# Altium footprint library Inductor_SMD.PcbLib: 259 footprints (part 12 of 17)
Each footprint in its own frame and in the unit in brackets; x right, y up, seen from the top. Pads: shape width x height; smd on the part's side, far side on the other; paste and mask are expansions set on the pad; w line width, h text height; cw(c..) or ccw(c..) is an arc to the next point about the centre after c.
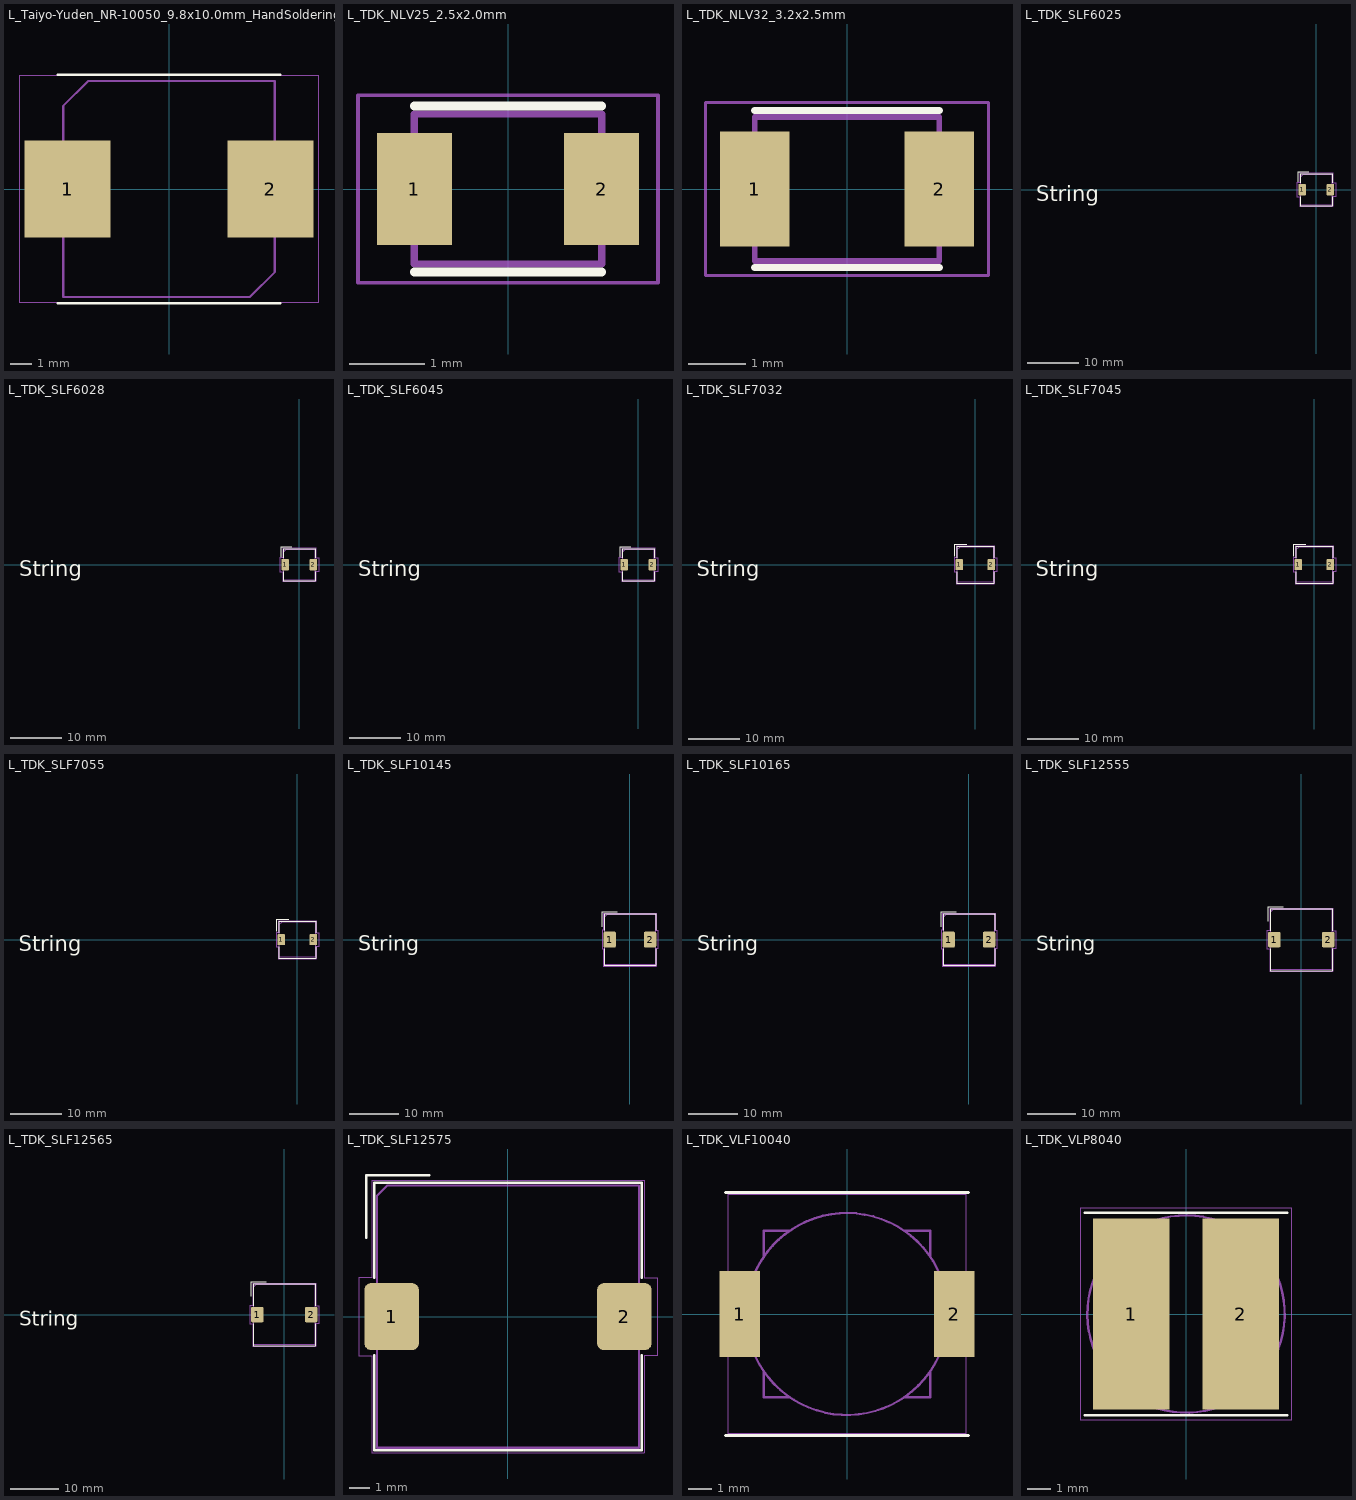
[diagram p11: the footprints below, top view; thin cyan lines are the x and y axes]

## L_Taiyo-Yuden_NR-10050_9.8x10.0mm_HandSoldering [mm]
pads (2):
  rect 4x4.5 smd: 1(-4.7,0) 2(4.7,0)
F.SilkS:
  lines w0.12: -5.15,-5.3 5.15,-5.3 ; -5.15,5.3 5.15,5.3
F.CrtYd:
  lines w0.05: -6.95,-5.25 6.95,-5.25 6.95,5.25 -6.95,5.25 -6.95,-5.25
F.Fab:
  lines w0.1: -4.9,-5 3.75,-5 4.9,-3.85 4.9,5 -3.75,5 -4.9,3.85 -4.9,-5
  text "'.Designator'" at -4.047,-0.84 h1

## L_TDK_NLV25_2.5x2.0mm [mm]
pads (2):
  rect 1x1.5 smd: 1(-1.25,0) 2(1.25,0)
F.SilkS:
  lines w0.12: -1.25,-1.11 1.25,-1.11 ; -1.25,1.11 1.25,1.11
F.CrtYd:
  lines w0.05: -2,-1.25 -2,1.25 2,1.25 2,-1.25 -2,-1.25
F.Fab:
  lines w0.1: -1.25,-1 1.25,-1 1.25,1 -1.25,1 -1.25,-1
  text "'.Designator'" at -2.028,-0.425 h0.5

## L_TDK_NLV32_3.2x2.5mm [mm]
pads (2):
  rect 1.2x2 smd: 1(-1.6,0) 2(1.6,0)
F.SilkS:
  lines w0.12: -1.6,-1.36 1.6,-1.36 ; -1.6,1.36 1.6,1.36
F.CrtYd:
  lines w0.05: -2.45,-1.5 2.45,-1.5 2.45,1.5 -2.45,1.5 -2.45,-1.5
F.Fab:
  lines w0.1: -1.6,-1.25 1.6,-1.25 1.6,1.25 -1.6,1.25 -1.6,-1.25
  text "'.Designator'" at -2.028,-0.425 h0.5

## L_TDK_SLF6025 [mm]
pads (2):
  rrect25% 1.5x2.2 smd: 1(-2.75,0) 2(2.75,0)
F.SilkS:
  lines w0.12: -3.5,1.5 -3.5,3.5 -1.5,3.5 ; -3.12,-1.35 -3.12,-3.12 3.12,-3.12 3.12,-1.35 ; -3.12,1.35 -3.12,3.12 3.12,3.12 3.12,1.35
  text "String" at -54.563,-2.271 h3
F.CrtYd:
  lines w0.05: -3.76,-1.36 -3.25,-1.36 -3.25,-3.25 3.25,-3.25 3.25,-1.36 3.76,-1.36 3.76,1.36 3.25,1.36 3.25,3.25 -3.25,3.25 -3.25,1.36 -3.76,1.36 -3.76,-1.36
F.Fab:
  lines w0.1: -3,-3 3,-3 3,3 -2.5,3 -3,2.5 -3,-3
  text "'.Designator'" at -4.047,-0.84 h1

## L_TDK_SLF6028 [mm]
pads (2):
  rrect25% 1.5x2.2 smd: 1(-2.75,0) 2(2.75,0)
F.SilkS:
  lines w0.12: -3.5,1.5 -3.5,3.5 -1.5,3.5 ; -3.12,-1.35 -3.12,-3.12 3.12,-3.12 3.12,-1.35 ; -3.12,1.35 -3.12,3.12 3.12,3.12 3.12,1.35
  text "String" at -54.563,-2.271 h3
F.CrtYd:
  lines w0.05: -3.76,-1.36 -3.25,-1.36 -3.25,-3.25 3.25,-3.25 3.25,-1.36 3.76,-1.36 3.76,1.36 3.25,1.36 3.25,3.25 -3.25,3.25 -3.25,1.36 -3.76,1.36 -3.76,-1.36
F.Fab:
  lines w0.1: -3,-3 3,-3 3,3 -2.5,3 -3,2.5 -3,-3
  text "'.Designator'" at -4.047,-0.84 h1

## L_TDK_SLF6045 [mm]
pads (2):
  rrect25% 1.5x2.2 smd: 1(-2.75,0) 2(2.75,0)
F.SilkS:
  lines w0.12: -3.5,1.5 -3.5,3.5 -1.5,3.5 ; -3.12,-1.35 -3.12,-3.12 3.12,-3.12 3.12,-1.35 ; -3.12,1.35 -3.12,3.12 3.12,3.12 3.12,1.35
  text "String" at -54.563,-2.271 h3
F.CrtYd:
  lines w0.05: -3.76,-1.36 -3.76,1.36 -3.25,1.36 -3.25,3.25 3.25,3.25 3.25,1.36 3.76,1.36 3.76,-1.36 3.25,-1.36 3.25,-3.25 -3.25,-3.25 -3.25,-1.36 -3.76,-1.36
F.Fab:
  lines w0.1: -3,-3 -3,2.5 -2.5,3 3,3 3,-3 -3,-3
  text "'.Designator'" at -4.047,-0.84 h1

## L_TDK_SLF7032 [mm]
pads (2):
  rrect25% 1.5x2.2 smd: 1(-3.15,0) 2(3.15,0)
F.SilkS:
  lines w0.12: -4,1.667 -4,4 -1.667,4 ; -3.62,-1.35 -3.62,-3.62 3.62,-3.62 3.62,-1.35 ; -3.62,1.35 -3.62,3.62 3.62,3.62 3.62,1.35
  text "String" at -54.563,-2.271 h3
F.CrtYd:
  lines w0.05: -4.16,-1.36 -3.75,-1.36 -3.75,-3.75 3.75,-3.75 3.75,-1.36 4.16,-1.36 4.16,1.36 3.75,1.36 3.75,3.75 -3.75,3.75 -3.75,1.36 -4.16,1.36 -4.16,-1.36
F.Fab:
  lines w0.1: -3.5,-3.5 3.5,-3.5 3.5,3.5 -3,3.5 -3.5,3 -3.5,-3.5
  text "'.Designator'" at -4.047,-0.84 h1

## L_TDK_SLF7045 [mm]
pads (2):
  rrect25% 1.5x2.2 smd: 1(-3.15,0) 2(3.15,0)
F.SilkS:
  lines w0.12: -4,1.667 -4,4 -1.667,4 ; -3.62,-1.35 -3.62,-3.62 3.62,-3.62 3.62,-1.35 ; -3.62,1.35 -3.62,3.62 3.62,3.62 3.62,1.35
  text "String" at -54.563,-2.271 h3
F.CrtYd:
  lines w0.05: -4.16,-1.36 -4.16,1.36 -3.75,1.36 -3.75,3.75 3.75,3.75 3.75,1.36 4.16,1.36 4.16,-1.36 3.75,-1.36 3.75,-3.75 -3.75,-3.75 -3.75,-1.36 -4.16,-1.36
F.Fab:
  lines w0.1: -3.5,-3.5 -3.5,3 -3,3.5 3.5,3.5 3.5,-3.5 -3.5,-3.5
  text "'.Designator'" at -4.047,-0.84 h1

## L_TDK_SLF7055 [mm]
pads (2):
  rrect25% 1.5x2.2 smd: 1(-3.15,0) 2(3.15,0)
F.SilkS:
  lines w0.12: -4,1.667 -4,4 -1.667,4 ; -3.62,-1.35 -3.62,-3.62 3.62,-3.62 3.62,-1.35 ; -3.62,1.35 -3.62,3.62 3.62,3.62 3.62,1.35
  text "String" at -54.563,-2.271 h3
F.CrtYd:
  lines w0.05: -4.16,-1.36 -3.75,-1.36 -3.75,-3.75 3.75,-3.75 3.75,-1.36 4.16,-1.36 4.16,1.36 3.75,1.36 3.75,3.75 -3.75,3.75 -3.75,1.36 -4.16,1.36 -4.16,-1.36
F.Fab:
  lines w0.1: -3.5,-3.5 -3.5,3 -3,3.5 3.5,3.5 3.5,-3.5 -3.5,-3.5
  text "'.Designator'" at -4.047,-0.84 h1

## L_TDK_SLF10145 [mm]
pads (2):
  rrect25% 2.5x3.2 smd: 1(-4.05,0) 2(4.05,0)
F.SilkS:
  lines w0.12: -5.55,2.55 -5.55,5.55 -2.55,5.55 ; -5.17,-1.85 -5.17,-5.17 5.17,-5.17 5.17,-1.85 ; -5.17,1.85 -5.17,5.17 5.17,5.17 5.17,1.85
  text "String" at -54.563,-2.271 h3
F.CrtYd:
  lines w0.05: -5.56,-1.86 -5.56,1.86 -5.3,1.86 -5.3,5.3 5.3,5.3 5.3,1.86 5.56,1.86 5.56,-1.86 5.3,-1.86 5.3,-5.3 -5.3,-5.3 -5.3,-1.86 -5.56,-1.86
F.Fab:
  lines w0.1: -5.05,-5.05 5.05,-5.05 5.05,5.05 -4.55,5.05 -5.05,4.55 -5.05,-5.05
  text "'.Designator'" at -4.047,-0.84 h1

## L_TDK_SLF10165 [mm]
pads (2):
  rrect25% 2.5x3.2 smd: 1(-4.05,0) 2(4.05,0)
F.SilkS:
  lines w0.12: -5.55,2.55 -5.55,5.55 -2.55,5.55 ; -5.17,-1.85 -5.17,-5.17 5.17,-5.17 5.17,-1.85 ; -5.17,1.85 -5.17,5.17 5.17,5.17 5.17,1.85
  text "String" at -54.563,-2.271 h3
F.CrtYd:
  lines w0.05: -5.56,-1.86 -5.56,1.86 -5.3,1.86 -5.3,5.3 5.3,5.3 5.3,1.86 5.56,1.86 5.56,-1.86 5.3,-1.86 5.3,-5.3 -5.3,-5.3 -5.3,-1.86 -5.56,-1.86
F.Fab:
  lines w0.1: -5.05,-5.05 5.05,-5.05 5.05,5.05 -4.55,5.05 -5.05,4.55 -5.05,-5.05
  text "'.Designator'" at -4.047,-0.84 h1

## L_TDK_SLF12555 [mm]
pads (2):
  rrect25% 2.6x3.2 smd: 1(-5.55,0) 2(5.55,0)
F.SilkS:
  lines w0.12: -6.75,3.75 -6.75,6.75 -3.75,6.75 ; -6.37,-1.85 -6.37,-6.37 6.37,-6.37 6.37,-1.85 ; -6.37,1.85 -6.37,6.37 6.37,6.37 6.37,1.85
  text "String" at -54.563,-2.271 h3
F.CrtYd:
  lines w0.05: -7.11,-1.86 -6.5,-1.86 -6.5,-6.5 6.5,-6.5 6.5,-1.86 7.11,-1.86 7.11,1.86 6.5,1.86 6.5,6.5 -6.5,6.5 -6.5,1.86 -7.11,1.86 -7.11,-1.86
F.Fab:
  lines w0.1: -6.25,-6.25 6.25,-6.25 6.25,6.25 -5.75,6.25 -6.25,5.75 -6.25,-6.25
  text "'.Designator'" at -4.047,-0.84 h1

## L_TDK_SLF12565 [mm]
pads (2):
  rrect25% 2.6x3.2 smd: 1(-5.55,0) 2(5.55,0)
F.SilkS:
  lines w0.12: -6.75,3.75 -6.75,6.75 -3.75,6.75 ; -6.37,-1.85 -6.37,-6.37 6.37,-6.37 6.37,-1.85 ; -6.37,1.85 -6.37,6.37 6.37,6.37 6.37,1.85
  text "String" at -54.563,-2.271 h3
F.CrtYd:
  lines w0.05: -7.11,-1.86 -7.11,1.86 -6.5,1.86 -6.5,6.5 6.5,6.5 6.5,1.86 7.11,1.86 7.11,-1.86 6.5,-1.86 6.5,-6.5 -6.5,-6.5 -6.5,-1.86 -7.11,-1.86
F.Fab:
  lines w0.1: -6.25,-6.25 -6.25,5.75 -5.75,6.25 6.25,6.25 6.25,-6.25 -6.25,-6.25
  text "'.Designator'" at -4.047,-0.84 h1

## L_TDK_SLF12575 [mm]
pads (2):
  rrect25% 2.6x3.2 smd: 1(-5.55,0) 2(5.55,0)
F.SilkS:
  lines w0.12: -6.75,3.75 -6.75,6.75 -3.75,6.75 ; -6.37,-1.85 -6.37,-6.37 6.37,-6.37 6.37,-1.85 ; -6.37,1.85 -6.37,6.37 6.37,6.37 6.37,1.85
F.CrtYd:
  lines w0.05: -7.11,-1.86 -6.5,-1.86 -6.5,-6.5 6.5,-6.5 6.5,-1.86 7.11,-1.86 7.11,1.86 6.5,1.86 6.5,6.5 -6.5,6.5 -6.5,1.86 -7.11,1.86 -7.11,-1.86
F.Fab:
  lines w0.1: -6.25,-6.25 6.25,-6.25 6.25,6.25 -5.75,6.25 -6.25,5.75 -6.25,-6.25
  text "'.Designator'" at -4.047,-0.84 h1

## L_TDK_VLF10040 [mm]
pads (2):
  rect 1.7x3.6 smd: 1(-4.5,0) 2(4.5,0)
F.SilkS:
  lines w0.12: -5.1,-5.1 5.1,-5.1 ; -5.1,5.1 5.1,5.1
F.CrtYd:
  lines w0.05: -5,-5 5,-5 5,5 -5,5 -5,-5
F.Fab:
  circle w0.1: c0,0 r4.243
  lines w0.1: -3.5,-2.4 -3.5,-3.5 -2.4,-3.5 ; -3.5,2.4 -3.5,3.5 -2.4,3.5 ; 2.4,-3.5 3.5,-3.5 3.5,-2.4 ; 2.4,3.5 3.5,3.5 3.5,2.4
  text "'.Designator'" at -4.047,-0.84 h1

## L_TDK_VLP8040 [mm]
pads (2):
  rect 3.3x8.2 smd: 1(-2.35,0) 2(2.35,0)
F.SilkS:
  lines w0.12: -4.35,-4.35 4.35,-4.35 ; -4.35,4.35 4.35,4.35
F.CrtYd:
  lines w0.05: -4.55,-4.55 4.55,-4.55 4.55,4.55 -4.55,4.55 -4.55,-4.55
F.Fab:
  circle w0.1: c0,0 r4.243
  lines w0.1: -3.5,-2.4 -3.5,-3.5 -2.4,-3.5 ; -3.5,2.4 -3.5,3.5 -2.4,3.5 ; 2.4,-3.5 3.5,-3.5 3.5,-2.4 ; 2.4,3.5 3.5,3.5 3.5,2.4
  text "'.Designator'" at -4.047,-0.84 h1